# EAGLE library part LM3668_VOLTAGE_REGULATOR (library Taylor)
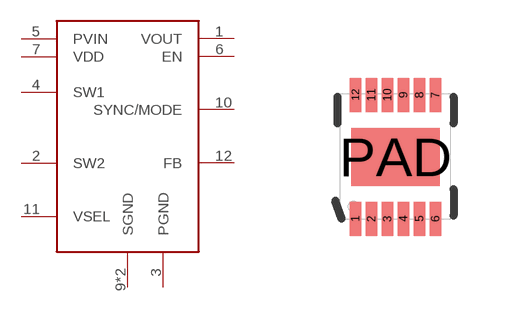
[diagram p39: symbol with the pads of QFN_10_PAD; footprint QFN_10_PAD]

Designator prefix -

## LM3668_VOLTAGE_REGULATOR  [QFN_10_PAD]
1  VOUT
2  SW2
3  PGND
4  SW1
5  PVIN
6  EN
7  VDD
9  SGND
10  SYNC/MODE
11  VSEL
12  FB
PAD  SGND

## Footprint QFN_10_PAD (pad centres in mm)
smd 0.297 x 0.85: 1 -0.8,-1.55; 2 -0.4,-1.55; 3 0,-1.55; 4 0.4,-1.55; 5 0.8,-1.55; 6 1.2,-1.55; 7 1.2,1.55; 8 0.8,1.55; 9 0.4,1.55; 10 0,1.55; 11 -0.4,1.55
smd 0.28 x 0.85: 12 -0.8,1.55
smd 2.2 x 1.45: PAD 0.2,0